# Altium schematic symbol library SCH - MCU - STM32 - ST MICROELECTRONICS STM32L100RCTX LQFP64.SchLib: 1 symbol
Pins are listed as number, name and electrical type; pins without a type are passive.

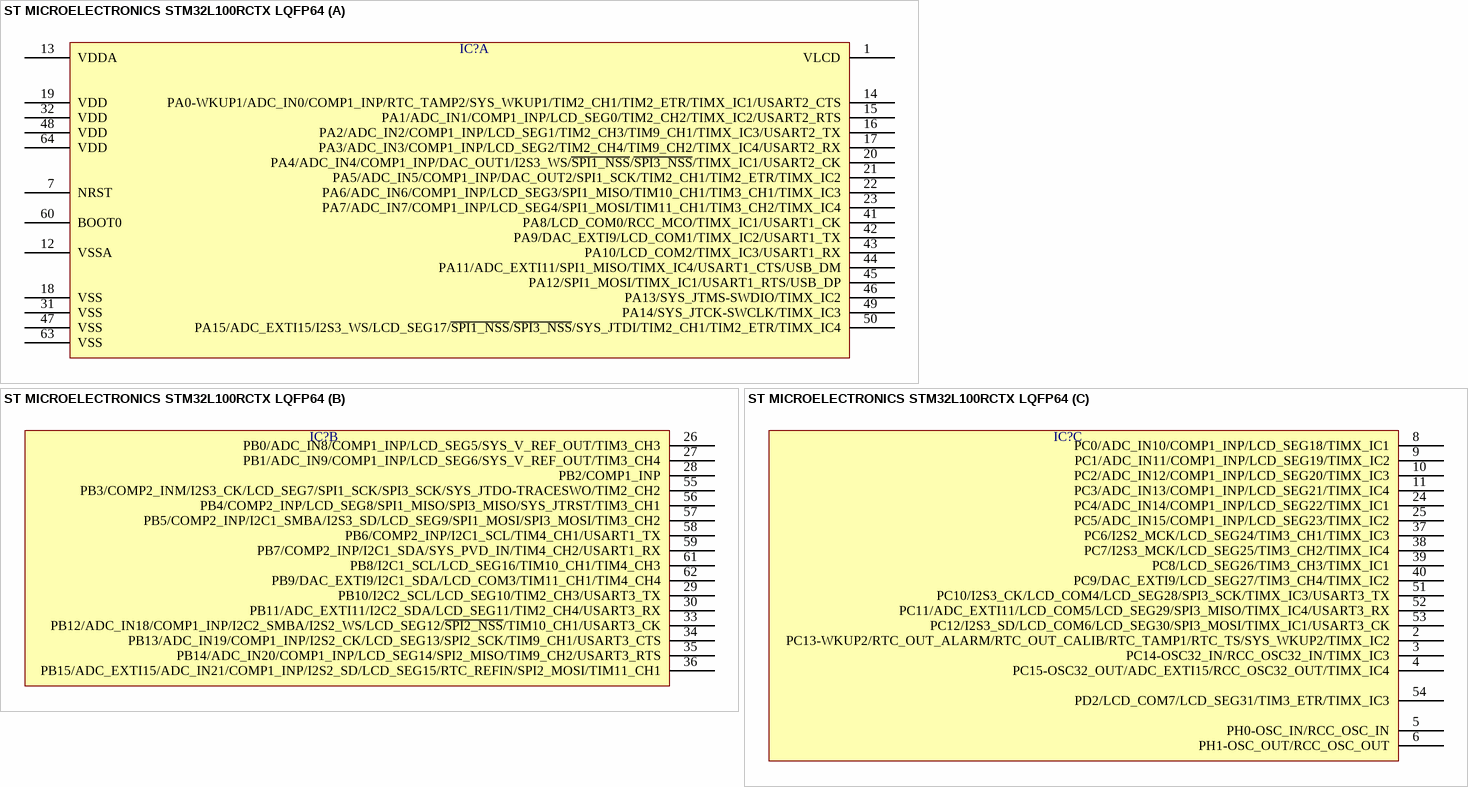
[diagram p0: symbol ST MICROELECTRONICS STM32L100RCTX LQFP64]

## ST MICROELECTRONICS STM32L100RCTX LQFP64
designator IC?  (value not drawn)
part A pins: 1 VLCD, 7 NRST, 12 VSSA, 13 VDDA, 14 PA0-WKUP1/ADC_IN0/COMP1_INP/RTC_TAMP2/SYS_WKUP1/TIM2_CH1/TIM2_ETR/TIMX_IC1/USART2_CTS, 15 PA1/ADC_IN1/COMP1_INP/LCD_SEG0/TIM2_CH2/TIMX_IC2/USART2_RTS, 16 PA2/ADC_IN2/COMP1_INP/LCD_SEG1/TIM2_CH3/TIM9_CH1/TIMX_IC3/USART2_TX, 17 PA3/ADC_IN3/COMP1_INP/LCD_SEG2/TIM2_CH4/TIM9_CH2/TIMX_IC4/USART2_RX, 18 VSS, 19 VDD, 20 PA4/ADC_IN4/COMP1_INP/DAC_OUT1/I2S3_WS/~{SPI1_NSS}/~{SPI3_NSS}/TIMX_IC1/USART2_CK, 21 PA5/ADC_IN5/COMP1_INP/DAC_OUT2/SPI1_SCK/TIM2_CH1/TIM2_ETR/TIMX_IC2, 22 PA6/ADC_IN6/COMP1_INP/LCD_SEG3/SPI1_MISO/TIM10_CH1/TIM3_CH1/TIMX_IC3, 23 PA7/ADC_IN7/COMP1_INP/LCD_SEG4/SPI1_MOSI/TIM11_CH1/TIM3_CH2/TIMX_IC4, 31 VSS, 32 VDD, 41 PA8/LCD_COM0/RCC_MCO/TIMX_IC1/USART1_CK, 42 PA9/DAC_EXTI9/LCD_COM1/TIMX_IC2/USART1_TX, 43 PA10/LCD_COM2/TIMX_IC3/USART1_RX, 44 PA11/ADC_EXTI11/SPI1_MISO/TIMX_IC4/USART1_CTS/USB_DM, 45 PA12/SPI1_MOSI/TIMX_IC1/USART1_RTS/USB_DP, 46 PA13/SYS_JTMS-SWDIO/TIMX_IC2, 47 VSS, 48 VDD, 49 PA14/SYS_JTCK-SWCLK/TIMX_IC3, 50 PA15/ADC_EXTI15/I2S3_WS/LCD_SEG17/~{SPI1_NSS}/~{SPI3_NSS}/SYS_JTDI/TIM2_CH1/TIM2_ETR/TIMX_IC4, 60 BOOT0, 63 VSS, 64 VDD
part B pins: 26 PB0/ADC_IN8/COMP1_INP/LCD_SEG5/SYS_V_REF_OUT/TIM3_CH3, 27 PB1/ADC_IN9/COMP1_INP/LCD_SEG6/SYS_V_REF_OUT/TIM3_CH4, 28 PB2/COMP1_INP, 29 PB10/I2C2_SCL/LCD_SEG10/TIM2_CH3/USART3_TX, 30 PB11/ADC_EXTI11/I2C2_SDA/LCD_SEG11/TIM2_CH4/USART3_RX, 33 PB12/ADC_IN18/COMP1_INP/I2C2_SMBA/I2S2_WS/LCD_SEG12/~{SPI2_NSS}/TIM10_CH1/USART3_CK, 34 PB13/ADC_IN19/COMP1_INP/I2S2_CK/LCD_SEG13/SPI2_SCK/TIM9_CH1/USART3_CTS, 35 PB14/ADC_IN20/COMP1_INP/LCD_SEG14/SPI2_MISO/TIM9_CH2/USART3_RTS, 36 PB15/ADC_EXTI15/ADC_IN21/COMP1_INP/I2S2_SD/LCD_SEG15/RTC_REFIN/SPI2_MOSI/TIM11_CH1, 55 PB3/COMP2_INM/I2S3_CK/LCD_SEG7/SPI1_SCK/SPI3_SCK/SYS_JTDO-TRACESWO/TIM2_CH2, 56 PB4/COMP2_INP/LCD_SEG8/SPI1_MISO/SPI3_MISO/SYS_JTRST/TIM3_CH1, 57 PB5/COMP2_INP/I2C1_SMBA/I2S3_SD/LCD_SEG9/SPI1_MOSI/SPI3_MOSI/TIM3_CH2, 58 PB6/COMP2_INP/I2C1_SCL/TIM4_CH1/USART1_TX, 59 PB7/COMP2_INP/I2C1_SDA/SYS_PVD_IN/TIM4_CH2/USART1_RX, 61 PB8/I2C1_SCL/LCD_SEG16/TIM10_CH1/TIM4_CH3, 62 PB9/DAC_EXTI9/I2C1_SDA/LCD_COM3/TIM11_CH1/TIM4_CH4
part C pins: 2 PC13-WKUP2/RTC_OUT_ALARM/RTC_OUT_CALIB/RTC_TAMP1/RTC_TS/SYS_WKUP2/TIMX_IC2, 3 PC14-OSC32_IN/RCC_OSC32_IN/TIMX_IC3, 4 PC15-OSC32_OUT/ADC_EXTI15/RCC_OSC32_OUT/TIMX_IC4, 5 PH0-OSC_IN/RCC_OSC_IN, 6 PH1-OSC_OUT/RCC_OSC_OUT, 8 PC0/ADC_IN10/COMP1_INP/LCD_SEG18/TIMX_IC1, 9 PC1/ADC_IN11/COMP1_INP/LCD_SEG19/TIMX_IC2, 10 PC2/ADC_IN12/COMP1_INP/LCD_SEG20/TIMX_IC3, 11 PC3/ADC_IN13/COMP1_INP/LCD_SEG21/TIMX_IC4, 24 PC4/ADC_IN14/COMP1_INP/LCD_SEG22/TIMX_IC1, 25 PC5/ADC_IN15/COMP1_INP/LCD_SEG23/TIMX_IC2, 37 PC6/I2S2_MCK/LCD_SEG24/TIM3_CH1/TIMX_IC3, 38 PC7/I2S3_MCK/LCD_SEG25/TIM3_CH2/TIMX_IC4, 39 PC8/LCD_SEG26/TIM3_CH3/TIMX_IC1, 40 PC9/DAC_EXTI9/LCD_SEG27/TIM3_CH4/TIMX_IC2, 51 PC10/I2S3_CK/LCD_COM4/LCD_SEG28/SPI3_SCK/TIMX_IC3/USART3_TX, 52 PC11/ADC_EXTI11/LCD_COM5/LCD_SEG29/SPI3_MISO/TIMX_IC4/USART3_RX, 53 PC12/I2S3_SD/LCD_COM6/LCD_SEG30/SPI3_MOSI/TIMX_IC1/USART3_CK, 54 PD2/LCD_COM7/LCD_SEG31/TIM3_ETR/TIMX_IC3